# Altium footprint library Fuse_Littelfuse_1210L020WR_eec_MFG.PcbLib: 1 footprints
Each footprint in its own frame and in the unit in brackets; x right, y up, seen from the top. Pads: shape width x height; smd on the part's side, far side on the other; paste and mask are expansions set on the pad; w line width, h text height; cw(c..) or ccw(c..) is an arc to the next point about the centre after c.
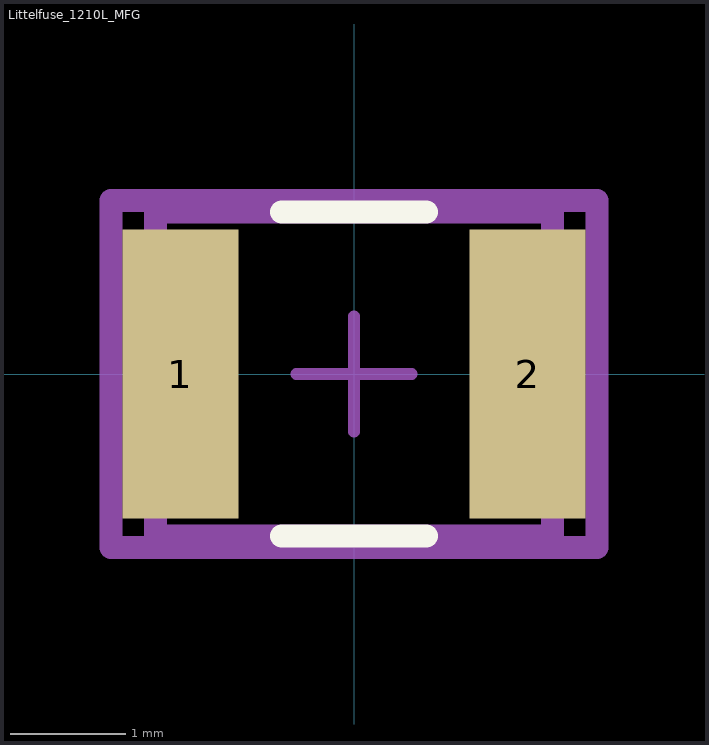
[diagram p0: the footprint, top view; thin cyan lines are the x and y axes]

## Littelfuse_1210L_MFG [mm]
pads (2):
  rect 1x2.5 smd paste+0 mask+0: 1(-1.5,0) 2(1.5,0)
Top Overlay:
  lines w0.2: -0.625,-1.4 0.625,-1.4 ; -0.625,1.4 0.625,1.4
Mechanical 10:
  lines w0.2: -2.1,-1.5 2.1,-1.5 2.1,1.5 -2.1,1.5 -2.1,-1.5
  text ".Designator" at 0,0 h1
Mechanical 12:
  lines w0.2: -1.715,-1.4 1.715,-1.4 1.715,1.4 -1.715,1.4 -1.715,-1.4
Mechanical 15:
  lines w0.1: -0.5,0 0.5,0 ; 0,-0.5 0,0.5
  lines w0.2: -2.1,-1.5 2.1,-1.5 2.1,1.5 -2.1,1.5 -2.1,-1.5
3D body "Fuse_Littelfuse_1210L020WR_eec.STEP": height 0.25, standoff 0, extent -2.1,-1.5 2.1,1.5